# Altium schematic symbol library DS3231S.SchLib: 1 symbol
Pins are listed as number, name and electrical type; pins without a type are passive.

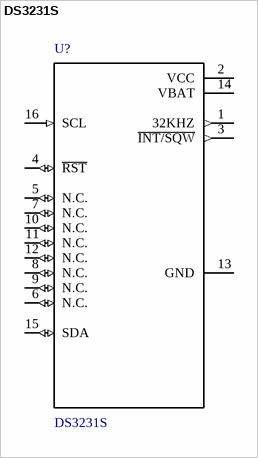
[diagram p0: symbol DS3231S]

## DS3231S
designator U?
Real Time Clock Serial 16-Pin SOIC; MF: Maxim Integrated; Price: None; Package: SOIC-16 Maxim Integrated; SnapEDA_Link: https://www.snapeda.com/parts/DS3231S/Maxim%20Integrated/view-part/?ref=snap; Availability: Unavailable; MP: DS3231S; Value: *
footprint *SOIC127P1032X265-16N
pins: 1 32KHZ (out), 2 VCC (power), 3 ~{INT/SQW} (out), 4 ~{RST} (io), 5 N.C. (io), 6 N.C. (io), 7 N.C. (io), 8 N.C. (io), 9 N.C. (io), 10 N.C. (io), 11 N.C. (io), 12 N.C. (io), 13 GND (power), 14 VBAT (power), 15 SDA (io), 16 SCL (in)